# Altium schematic symbol library TLMO1000-GS08.SchLib: 1 symbol
Pins are listed as number, name and electrical type; pins without a type are passive.

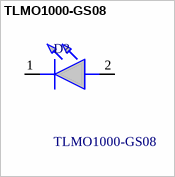
[diagram p0: symbol TLMO1000-GS08]

## TLMO1000-GS08
designator D?
LED Uni-Color Orange 610nm Vishay TLMO1000-GS08 Orange LED, 605 nm, 1608 (0603), Rectangle Lens SMD Package; Geometry.Height: 0.65mm; Mouser Part Number: 78-TLMO1000; Mouser Price/Stock: https://www.mouser.co.uk/ProductDetail/Vishay-Semiconductors/TLMO1000-GS08?qs=oNDV51lhjEPQ5ghR1MAWhw%3D%3D; Manufacturer_Name: Vishay; Manufacturer_Part_Number: TLMO1000-GS08; Datasheet Link: https://componentsearchengine.com/Datasheets/2/TLMO1000-GS08.pdf
footprint LEDC1608X65N
pins: 1 K, 2 A